# Altium schematic symbol library Fuse clip 5x20.SchLib: 1 symbol
Pins are listed as number, name and electrical type; pins without a type are passive.

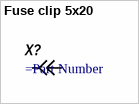
[diagram p0: symbol Fuse clip 5x20]

## Fuse clip 5x20
designator X?
pins: 1, 1